# Altium schematic symbol library SCH_Library.SchLib: 8 symbols
Pins are listed as number, name and electrical type; pins without a type are passive.

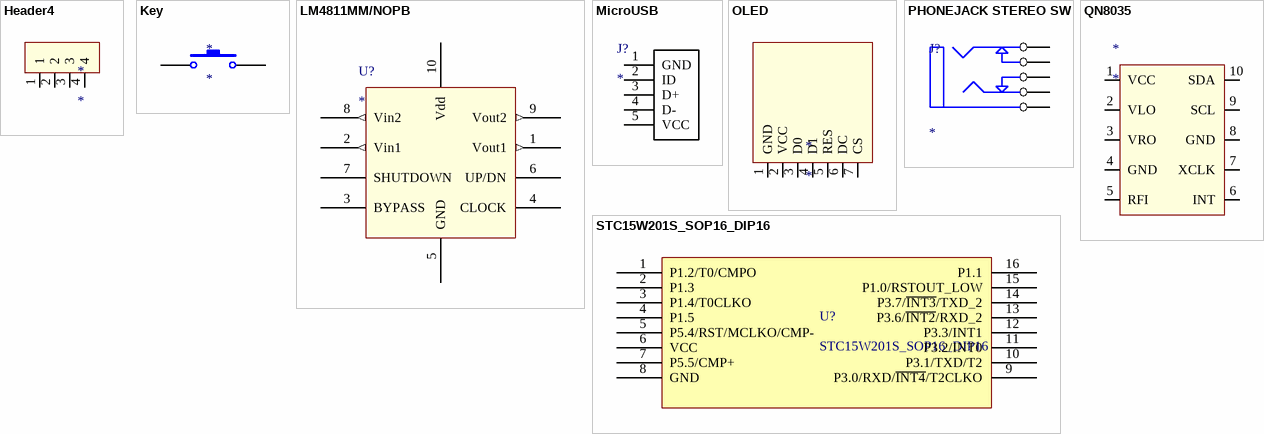
[diagram p0: symbols Header4 to STC15W201S_SOP16_DIP16]

## Header4
designator *
footprint HEADER4
pins: 1, 2, 3, 4

## Key
designator *
footprint key
pins: 1, 2

## LM4811MM/NOPB
designator U?
Imported; Manufacturer_Part_Number: LM4811MM/NOPB; Vendor: National Semiconductor; Section: Amplifiers and Comparators; Family: Audio Amplifier; Manufacturer_Name: National Semiconductor; RS Part Number: 5359802; RefDes: RefDes; Type: DEV; Value: Value
footprint MUB10A
pins: 1 Vout1 (out), 2 Vin1 (out), 3 BYPASS, 4 CLOCK, 5 GND, 6 UP/DN, 7 SHUTDOWN, 8 Vin2 (out), 9 Vout2 (out), 10 Vdd

## MicroUSB
designator J?
Imported
footprint MicroUSB
pins: 1 GND, 2 ID, 3 D+, 4 D-, 5 VCC

## OLED
designator *
footprint OLED_0.96
pins: 1 GND, 2 VCC, 3 D0, 4 D1, 5 RES, 6 DC, 7 CS

## PHONEJACK STEREO SW
designator J?
pins: 1 A, 2 B, 3 C, 4 D, 5 E

## QN8035
designator *
pins: 1 VCC, 2 VLO, 3 VRO, 4 GND, 5 RFI, 6 INT, 7 XCLK, 8 GND, 9 SCL, 10 SDA

## STC15W201S_SOP16_DIP16
designator U?
footprint SOP16
pins: 1 P1.2/T0/CMPO, 2 P1.3, 3 P1.4/T0CLKO, 4 P1.5, 5 P5.4/RST/MCLKO/CMP-, 6 VCC, 7 P5.5/CMP+, 8 GND, 9 P3.0/RXD/~{INT4}/T2CLKO, 10 P3.1/TXD/T2, 11 P3.2/INT0, 12 P3.3/INT1, 13 P3.6/~{INT2}/RXD_2, 14 P3.7/~{INT3}/TXD_2, 15 P1.0/RSTOUT_LOW, 16 P1.1